# Altium footprint library model_satellite.PcbLib: 15 footprints
Each footprint in its own frame and in the unit in brackets; x right, y up, seen from the top. Pads: shape width x height; smd on the part's side, far side on the other; paste and mask are expansions set on the pad; w line width, h text height; cw(c..) or ccw(c..) is an arc to the next point about the centre after c.
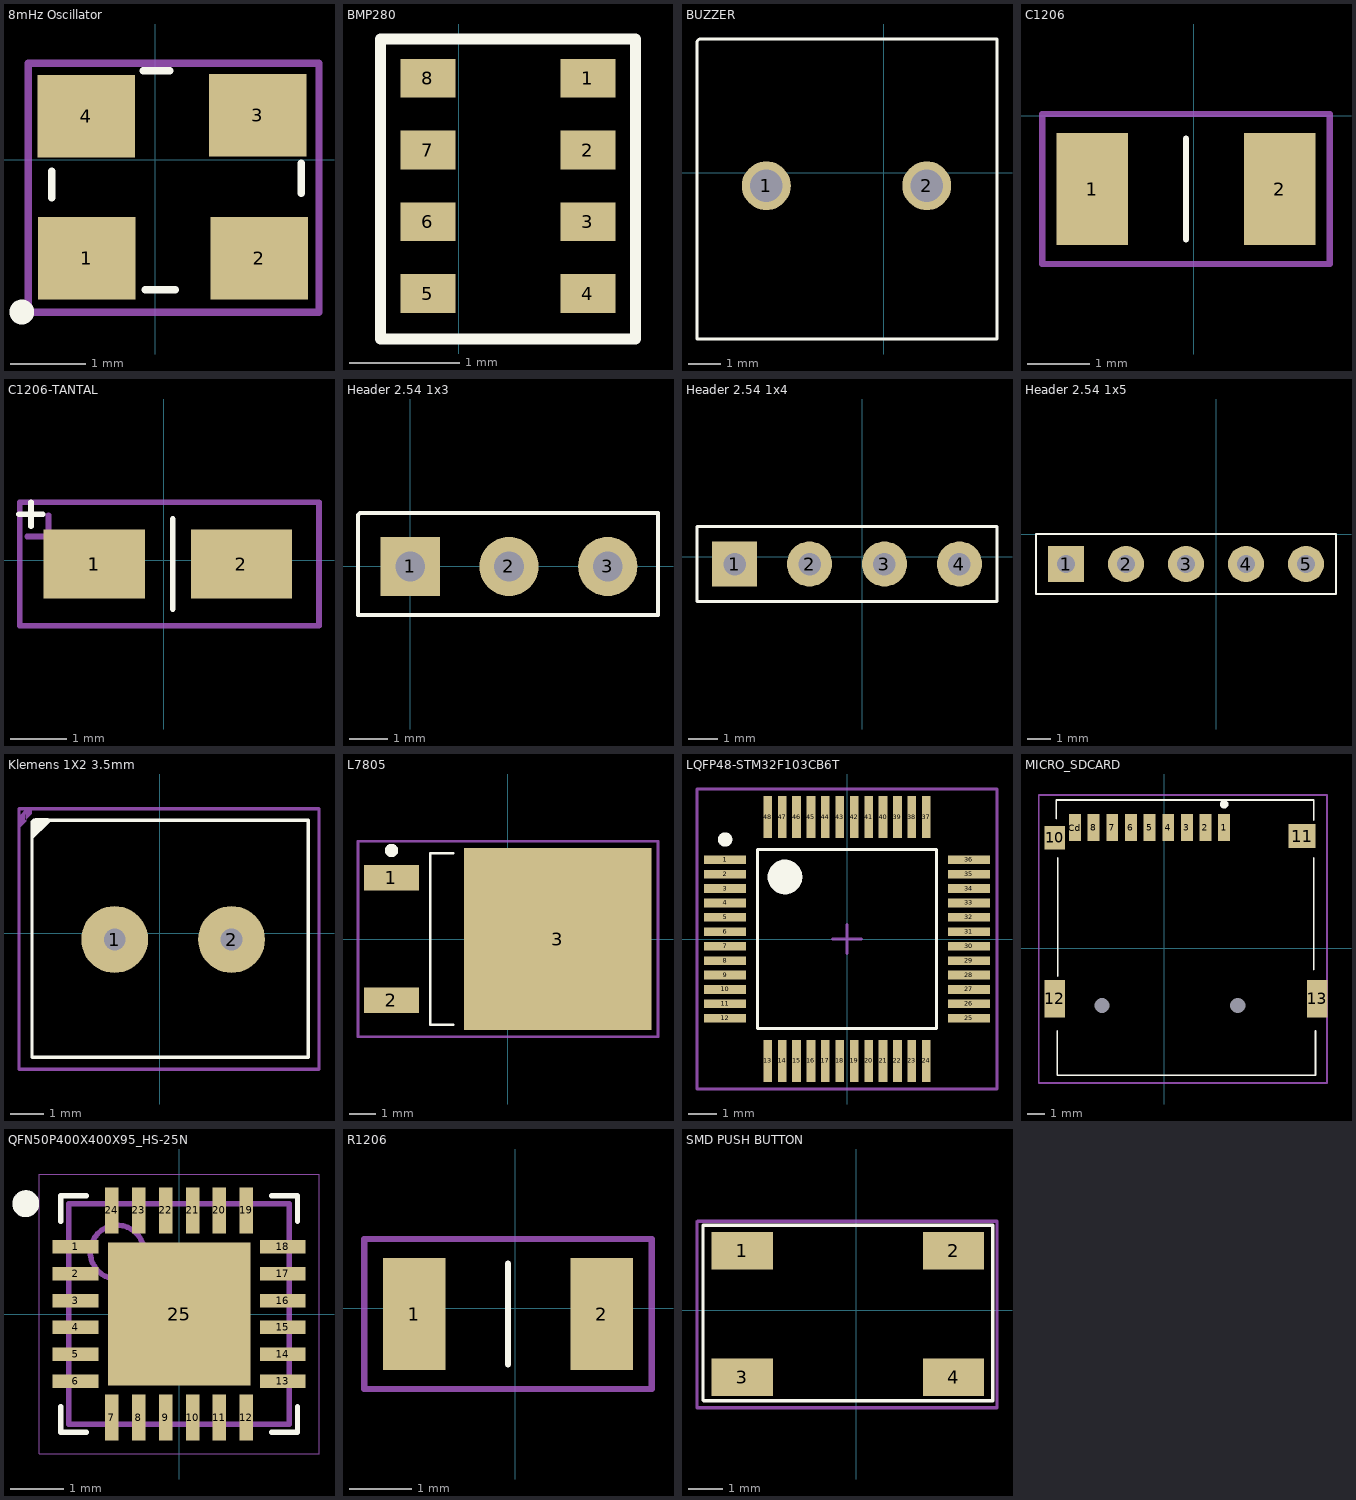
[diagram p0: the footprints below, top view; thin cyan lines are the x and y axes]

## 8mHz Oscillator [mm]
pads (4):
  rect 1.3x1.1 smd mask+0.05: 1(-0.913,-1.314) 2(1.387,-1.314) 3(1.371,0.593) 4(-0.918,0.577)
Top Overlay:
  circle w0.254: c-1.778,-2.032 r0.038
  lines w0.1: -1.377,-0.506 -1.377,-0.152 ; -0.156,1.186 0.198,1.186 ; -0.131,-1.735 0.269,-1.735 ; 1.952,-0.448 1.952,-0.048
Mechanical 3:
  circle w0.254: c-1.148,-1.348 r0.1
  lines w0.1: -1.693,-2.035 -1.693,1.289 2.186,1.289 2.186,-2.035 -1.693,-2.035
3D body "ASE3.STEP": height 1.22, standoff -0.03, extent -1.311,-1.465 1.889,1.035

## BMP280 [mm]
pads (8):
  rect 0.5x0.35 smd mask+0.05: 1(1.168,-1.829) 2(1.168,-2.479) 3(1.168,-3.129) 4(1.168,-3.779) 5(-0.282,-3.779) 6(-0.282,-3.129) 7(-0.282,-2.479) 8(-0.282,-1.829)
Top Overlay:
  lines w0.1: -0.711,-4.191 -0.711,-1.473 1.6,-1.473 1.6,-4.191 -0.711,-4.191
3D body: height 0.25, standoff 0, extent 0.381,-2.769 0.381,-2.769
3D body "User Library-BMP280.step": height 0.95, standoff -0.01, extent -0.568,-4.069 1.432,-1.569

## BUZZER [mil]
pads (2):
  round 60 hole 39.37: 1(-144,-16) 2(52.85,-16)
Top Overlay:
  lines w3.94: -229,-204 139,-204 139,164 -226,164 -229,161 -229,-204
3D body "User Library-HCM0905.step": height 216.54, standoff -196.85, extent -226.77,-201.2 136.22,161

## C1206 [mm]
pads (2):
  rect 1.15x1.8 smd mask+0.05: 1(-1.627,-1.172) 2(1.373,-1.172)
Top Overlay:
  lines w0.1: -0.127,-1.977 -0.127,-0.367
Mechanical 3:
  lines w0.1: -2.427,-2.372 2.173,-2.372 2.173,0.028 -2.427,0.028 -2.427,-2.372
3D body "1206CAP.step": height 1, standoff 0, extent -1.727,-1.972 1.473,-0.372

## C1206-TANTAL [mm]
pads (3):
  rect 1.8x1.23 smd mask+0.05: 1(-1.234,-0.064) 1(-1.234,-0.064) 2(1.386,-0.064)
Top Overlay:
  lines w0.1: -2.572,0.824 -2.147,0.824 ; -2.359,0.611 -2.359,1.036 ; 0.166,-0.864 0.166,0.736
Mechanical 3:
  lines w0.1: -2.428,0.425 -1.666,0.425 ; -2.047,0.044 -2.047,0.806 ; -2.559,-1.164 -2.559,1.036 2.766,1.036 2.766,-1.164 -2.559,-1.164
3D body "User Library-CaseA_3216-18.step": height 1.62, standoff 0.02, extent -1.534,-0.864 1.666,0.736

## Header 2.54 1x3 [mil]
pads (3):
  rect 60x60 hole 30: 1(0,0)
  round 60 hole 30: 2(100,0) 3(200,0)
Top Overlay:
  lines w3.94: -53,-49 251,-49 251,54 -51,54 -53,52 -53,-49
3D body "User Library-RM254_3pin.step": height 237.01, standoff -122.05, extent -51,-47 249,53

## Header 2.54 1x4 [mil]
pads (4):
  rect 60x60 hole 30: 1(-170,-10)
  round 60 hole 30: 2(-70,-10) 3(30,-10) 4(130,-10)
Top Overlay:
  lines w3.94: -220,-60 180,-60 180,40 -220,40 -220,-60
3D body "User Library-RM254_4pin.step": height 244.88, standoff -114.17, extent -220,-60 180,40

## Header 2.54 1x5 [mil]
pads (5):
  rect 60x60 hole 30: 1(-250,-50)
  round 60 hole 30: 2(-150,-50) 3(-50,-50) 4(50,-50) 5(150,-50)
Top Overlay:
  lines w3.94: -300,-100 100,-100 200,-100 200,0 100,0 -300,0 -300,-100
3D body "User Library-RM254_5pin.step": height 244.88, standoff -114.17, extent -300,-100 200,0

## Klemens 1X2 3.5mm [mm]
pads (2):
  round 2 hole 0.65: 1(-1.355,-0.192) 2(2.145,-0.192)
Top Overlay:
  region: -3.288,3.34 -3.861,2.767 -3.861,3.302 -3.728,3.435 -3.348,3.435
  lines w0.1: -3.83,3.333 -3.83,-3.717 4.445,-3.717 4.445,3.383 -3.78,3.383
Mechanical 3:
  region: -4.003,3.717 -4.219,3.502 -4.219,3.719 -4.217,3.717 -4.003,3.717 -4.003,3.353 -4.217,3.139 -4.217,3.717 -4.003,3.717 -3.996,3.71 -3.837,3.71 -3.837,3.567 -4.04,3.364
  lines w0.1: -4.217,-4.064 -4.217,3.717 -4.003,3.717 4.762,3.717 4.762,-4.074 -4.208,-4.074 -4.217,-4.064
3D body "terminal_blocks_a-tb350-te02.stp": height 8.9, standoff -3.29, extent -3.655,-3.592 4.339,3.408

## L7805 [mm] "D-PAK, 3-Pads, Body 6,40x6,56mm (max), IPC Medium Density"
height 2.3
pads (3):
  rect 2.05x0.95 smd: 1(-4.35,2.28) 2(-4.35,-2.28)
  rect 7x6.8 smd: 3(1.85,0)
Top Overlay:
  circle w0.25: c-4.35,3.305 r0.125
  lines w0.1: -2.05,-3.2 -2.9,-3.2 -2.9,3.2 -2.05,3.2
Mechanical 3:
  lines w0.1: -0.5,0 0.5,0 ; 0,-0.5 0,0.5 ; -5.6,-3.65 -5.6,3.65 5.6,3.65 5.6,-3.65 -5.6,-3.65
3D body: height 2.3, standoff 1, extent -2.9,-3.2 3.7,3.2

## LQFP48-STM32F103CB6T [mm] "TSQFP, 48-Leads, Body 7,00x7,00mm, Pitch 0,50mm, IPC Medium Density"
height 1.6
pads (48):
  rect 1.45x0.3 smd mask+0.05: 1(-4.225,2.75) 2(-4.225,2.25) 3(-4.225,1.75) 4(-4.225,1.25) 5(-4.225,0.75) 6(-4.225,0.25) 7(-4.225,-0.25) 8(-4.225,-0.75) 9(-4.225,-1.25) 10(-4.225,-1.75) 11(-4.225,-2.25) 12(-4.225,-2.75) 25(4.225,-2.75) 26(4.225,-2.25) 27(4.225,-1.75) 28(4.225,-1.25) 29(4.225,-0.75) 30(4.225,-0.25) 31(4.225,0.25) 32(4.225,0.75) 33(4.225,1.25) 34(4.225,1.75) 35(4.225,2.25) 36(4.225,2.75)
  rect 0.3x1.45 smd mask+0.05: 13(-2.75,-4.225) 14(-2.25,-4.225) 15(-1.75,-4.225) 16(-1.25,-4.225) 17(-0.75,-4.225) 18(-0.25,-4.225) 19(0.25,-4.225) 20(0.75,-4.225) 21(1.25,-4.225) 22(1.75,-4.225) 23(2.25,-4.225) 24(2.75,-4.225) 37(2.75,4.225) 38(2.25,4.225) 39(1.75,4.225) 40(1.25,4.225) 41(0.75,4.225) 42(0.25,4.225) 43(-0.25,4.225) 44(-0.75,4.225) 45(-1.25,4.225) 46(-1.75,4.225) 47(-2.25,4.225) 48(-2.75,4.225)
Top Overlay:
  circle w0.25: c-4.225,3.45 r0.125
  circle w0.6: c-2.15,2.15 r0.3
  lines w0.1: -3.1,-3.1 -3.1,3.1 3.1,3.1 3.1,-3.1 -3.1,-3.1
Mechanical 3:
  lines w0.1: -0.5,0 0.5,0 ; 0,-0.5 0,0.5 ; -5.2,-5.2 -5.2,5.2 5.2,5.2 5.2,-5.2 -5.2,-5.2
3D body "LQFP48-STM32F103CB6T.step": height 1.6, standoff 0, extent -4.5,-4.5 4.5,4.5

## MICRO_SDCARD [mm]
pads (15):
  rect 0.7x1.6 smd paste+0 mask+0: 1(3.542,7.115) 2(2.442,7.115) 3(1.342,7.115) 4(0.242,7.115) 5(-0.858,7.115) 6(-1.958,7.115) 7(-3.058,7.115) 8(-4.158,7.115) Cd(-5.258,7.115)
  rect 1.2x1.4 smd paste+0 mask+0: 10(-6.458,6.515)
  rect 1.6x1.4 smd paste+0 mask+0: 11(8.142,6.615)
  rect 1.2x2.2 smd paste+0 mask+0: 12(-6.458,-2.985) 13(9.042,-2.985)
  round 0 hole 0.9 unplated paste-1000 mask+0: ""(-3.658,-3.385) ""(4.342,-3.385)
Top Overlay:
  circle w0.25: c3.542,8.49 r0.125
  lines w0.1: -6.367,7.64 -6.367,8.74 8.833,8.74 8.833,7.54 ; -6.3,-4.885 -6.3,-7.507 8.933,-7.507 8.933,-4.885 ; -6.267,-1.66 -6.267,5.34 ; 8.833,-1.26 8.833,5.34
Mechanical 3:
  lines w0.1: -7.392,-7.96 -7.392,9.04 -6.892,9.04 9.358,9.04 9.608,9.04 9.608,-7.96 -7.392,-7.96
3D body "User Library-MEM2055-00-190-01-A_revG.step": height 1.85, standoff -0.6, extent -6.709,-7.38 9.291,7.87

## QFN50P400X400X95_HS-25N [mm] "QFN, 24-Leads, Body 4,00x4,00mm, Pitch 0,50mm, Thermal Pad 2,65x2,65mm, IPC Medium Density"
height 0.95
pads (25):
  rect 0.85x0.25 smd mask+0.05: 1(-1.925,1.25) 2(-1.925,0.75) 3(-1.925,0.25) 4(-1.925,-0.25) 5(-1.925,-0.75) 6(-1.925,-1.25) 13(1.925,-1.25) 14(1.925,-0.75) 15(1.925,-0.25) 16(1.925,0.25) 17(1.925,0.75) 18(1.925,1.25)
  rect 0.25x0.85 smd mask+0.05: 7(-1.25,-1.925) 8(-0.75,-1.925) 9(-0.25,-1.925) 10(0.25,-1.925) 11(0.75,-1.925) 12(1.25,-1.925) 19(1.25,1.925) 20(0.75,1.925) 21(0.25,1.925) 22(-0.25,1.925) 23(-0.75,1.925) 24(-1.25,1.925)
  rect 2.65x2.65 smd: 25(0,0)
Top Overlay:
  circle w0.25: c-2.85,2.05 r0.125
  lines w0.1: -2.2,-1.725 -2.2,-2.2 -1.725,-2.2 ; -2.2,1.725 -2.2,2.2 -1.725,2.2 ; 1.725,-2.2 2.2,-2.2 2.2,-1.725 ; 1.725,2.2 2.2,2.2 2.2,1.725
Mechanical 3:
  lines w0.01: -2.6,-2.6 2.6,-2.6 2.6,2.6 -2.6,2.6 -2.6,-2.6
  lines w0.1: -0.5,0 0.5,0 ; 0,-0.5 0,0.5
Mechanical 13:
  circle w0.1: c-1.15,1.15 r0.5
  lines w0.1: -2.05,-2.05 2.05,-2.05 2.05,2.05 -2.05,2.05 -2.05,-2.05
3D body "QFN50P400X400X95_HS-25N.step": height 0.95, standoff 0, extent -2.07,-2.07 2.07,2.07

## R1206 [mm]
pads (2):
  rect 1x1.8 smd mask+0.05: 1(-1.619,-0.088) 2(1.381,-0.088)
Top Overlay:
  lines w0.1: -0.119,-0.893 -0.119,0.717
Mechanical 3:
  lines w0.1: -2.419,-1.288 2.181,-1.288 2.181,1.112 -2.419,1.112 -2.419,-1.288
3D body "1206RES.step": height 0.55, standoff 0, extent -1.719,-0.893 1.481,0.717

## SMD PUSH BUTTON [mm]
pads (4):
  rect 1.8x1.1 smd mask+0.05: 1(-3.348,1.734) 2(2.852,1.734) 3(-3.348,-1.966) 4(2.852,-1.966)
Top Overlay:
  lines w0.1: -4.498,-2.641 -4.498,2.484 4.002,2.484 4.002,-2.666 -4.473,-2.666
Mechanical 3:
  lines w0.1: -4.673,-2.866 -4.673,2.584 -4.648,2.609 4.127,2.609 4.127,-2.866 -4.673,-2.866
3D body "User Library-4x4_SMD_Switch.step": height 1.5, standoff 0, extent -3.548,-2.766 2.852,2.434